# Altium footprint library IMX6ULL_MINI_V2.2.PcbLib: 44 footprints (part 2 of 3)
Each footprint in its own frame and in the unit in brackets; x right, y up, seen from the top. Pads: shape width x height; smd on the part's side, far side on the other; paste and mask are expansions set on the pad; w line width, h text height; cw(c..) or ccw(c..) is an arc to the next point about the centre after c.
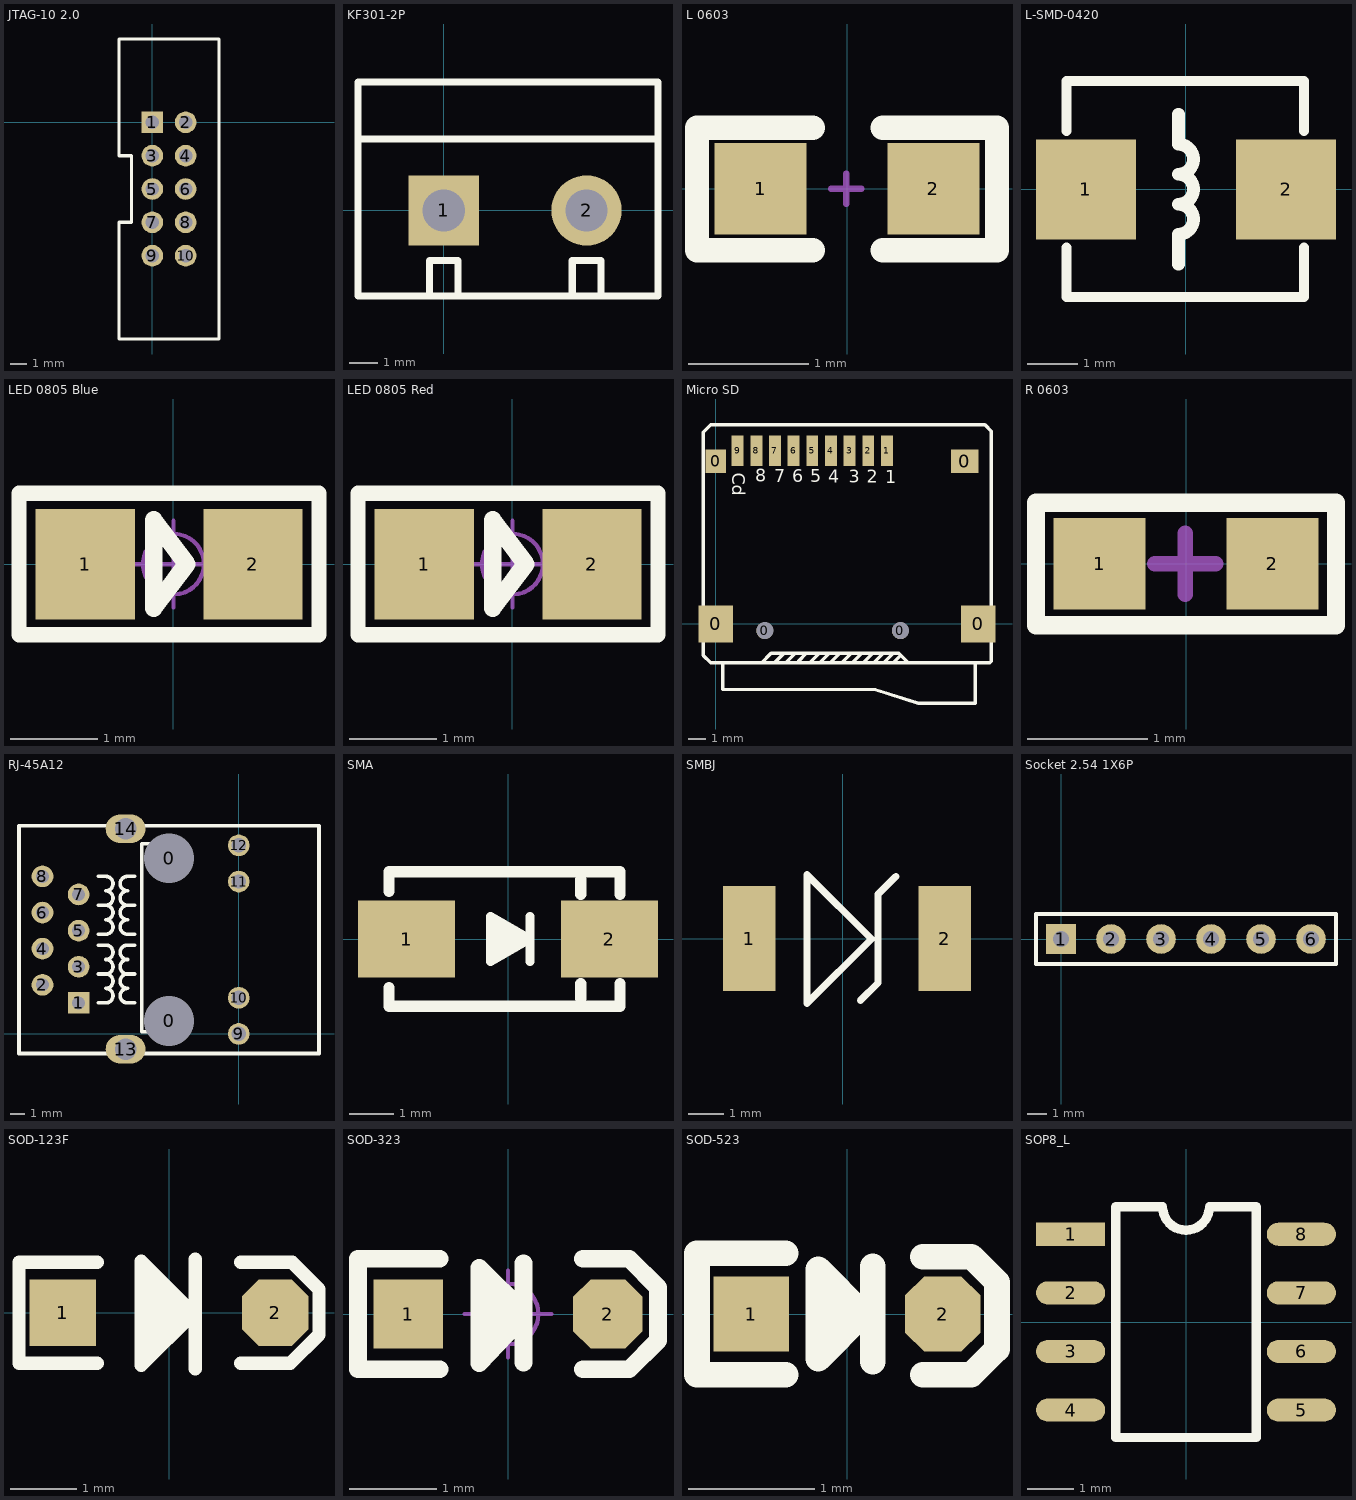
[diagram p1: the footprints below, top view; thin cyan lines are the x and y axes]

## JTAG-10 2.0 [mm]
pads (10):
  rect 1.3x1.3 hole 0.8: 1(0,0)
  round 1.3 hole 0.8: 2(2,0) 3(0,-2) 4(2,-2) 5(0,-4) 6(2,-4) 7(0,-6) 8(2,-6) 9(0,-8) 10(2,-8)
Top Overlay:
  lines w0.2: -2,-13 -2,-6 -1.25,-6 -1.25,-2 -2,-2 -2,3.25 -2,5 4,5 4,-13 -2,-13

## KF301-2P [mm]
pads (2):
  rect 2.5x2.5 hole 1.5: 1(0,0)
  round 2.5 hole 1.5: 2(5.08,0)
Top Overlay:
  lines w0.254: -3.048,2.54 7.62,2.54 ; -0.508,-3.048 -0.508,-1.778 0.508,-1.778 0.508,-3.048 ; 4.572,-3.048 4.572,-1.778 5.588,-1.778 5.588,-3.048 ; -3.048,-3.048 7.62,-3.048 7.62,4.572 -3.048,4.572 -3.048,-3.048

## L 0603 [mil]
pads (2):
  rect 30x30 smd mask+2: 1(-28.25,0) 2(28.25,0)
Top Overlay:
  lines w8: -11.25,-20.06 -49,-20.06 -49,19.94 -11.25,19.94 ; 11.75,-20.06 49,-20.06 49,19.94 11.75,19.94
Mechanical 15:
  lines w2: -5.25,0 4.75,0 ; -0.25,-5 -0.25,0 -0.25,5

## L-SMD-0420 [mm]
pads (2):
  rrect0% 2x2 smd: 1(-2,0) 2(2,0)
Top Overlay:
  lines w0.2: -2.388,-1.168 -2.388,-2.159 2.362,-2.159 2.362,-1.168 ; -2.388,1.168 -2.388,2.17 2.362,2.17 2.362,1.168
  lines w0.254: -0.15,-1.5 -0.15,-0.9 ccw(c-0.15,-0.6) -0.15,-0.3 ; -0.15,1.5 -0.15,0.9 cw(c-0.15,0.6) -0.15,0.3 ; -0.15,-0.3 ccw(c-0.15,0) -0.15,0.3 ; -0.15,-0.3 -0.15,-0.3 ; -0.15,0.3 -0.15,0.3

## LED 0805 Blue [mil]
pads (2):
  rect 45x50 smd: 1(-40,0) 2(36.01,0)
Top Overlay:
  lines w7: -70.03,-31.94 65.97,-31.94 65.97,32.06 -70.03,32.06 -70.03,-31.94
  lines w8: -9,-20 6,0 -9,20 -9,-20
Mechanical 15:
  circle w1.97: c0,0 r13.78
  lines w1.97: -19.68,0 19.68,0 ; 0,-19.68 0,19.68

## LED 0805 Red [mil]
pads (2):
  rect 45x50 smd: 1(-40,0) 2(36.01,0)
Top Overlay:
  lines w7: -70.03,-31.94 65.97,-31.94 65.97,32.06 -70.03,32.06 -70.03,-31.94
  lines w8: -9,-20 6,0 -9,20 -9,-20
Mechanical 15:
  circle w1.97: c0,0 r13.78
  lines w1.97: -19.68,0 19.68,0 ; 0,-19.68 0,19.68

## Micro SD [mm]
pads (15):
  rect 2.032x2.2 smd: 0(0,0) 0(15.5,0)
  rect 1.2x1.4 smd: 0(0,9.6)
  round 1 hole 1 unplated: 0(2.9,-0.4) 0(10.9,-0.4)
  rect 1.6x1.4 smd: 0(14.7,9.6)
  rect 0.7x1.8 smd: 1(10.1,10.227) 2(9,10.227) 3(7.9,10.227) 4(6.8,10.227) 5(5.7,10.227) 6(4.6,10.227) 7(3.5,10.227) 8(2.4,10.227) 9(1.3,10.227)
Top Overlay:
  lines w0.203: 0.423,-2.295 0.423,-3.87 9.414,-3.87 ; 3.471,-2.295 4.004,-1.762 4.004,-1.736 ; 4.131,-2.295 4.639,-1.787 4.639,-1.736 ; 4.868,-2.295 4.868,-2.219 5.35,-1.736 ; 5.553,-2.295 6.112,-1.736 6.138,-1.736 ; 6.138,-2.295 6.671,-1.762 6.671,-1.736 ; 6.773,-2.295 7.331,-1.736 7.433,-1.736 ; 7.433,-2.295 7.992,-1.736 8.017,-1.736 ; 8.068,-2.295 8.601,-1.762 8.601,-1.736 ; 8.703,-2.295 9.262,-1.736 9.389,-1.736 ; 9.338,-2.295 9.897,-1.736 9.922,-1.736 ; 9.389,-3.87 11.954,-4.683 15.307,-4.683 15.307,-2.321 ; 9.922,-2.295 10.481,-1.736 ; 10.481,-2.295 10.887,-1.889 10.964,-1.889 ; -0.289,-2.295 2.709,-2.295 3.267,-1.736 10.811,-1.736 11.37,-2.295 16.171,-2.295 ; -0.289,-2.295 16.171,-2.295 ; -0.289,-2.295 -0.72,-1.863 -0.72,11.319 -0.289,11.751 15.891,11.751 16.272,11.37 16.272,-2.194 16.171,-2.295
  text "1" at 9.998,8.297 h0.76
  text "2" at 8.906,8.322 h0.76
  text "3" at 7.839,8.322 h0.76
  text "4" at 6.646,8.322 h0.76
  text "5" at 5.579,8.347 h0.76
  text "6" at 4.512,8.347 h0.76
  text "7" at 3.445,8.347 h0.76
  text "8" at 2.328,8.373 h0.76
  text "Cd" at 0.981,8.932 h0.76

## R 0603 [mil]
pads (2):
  rect 30x30 smd mask+2: 1(-28.25,0) 2(28.25,0)
Top Overlay:
  lines w6: 11.75,-20.06 49,-20.06 49,19.94 11.75,19.94 ; 16,19.94 -49,19.94 -49,-20.06 17,-20.06
Mechanical 15:
  lines w5: -10.25,0 9.75,0 ; -0.25,-10 -0.25,10

## RJ-45A12 [mil]
pads (16):
  round 130 hole 137.8: 0(-192.91,35.83) 0(-192.91,485.83)
  rect 60x60 hole 35.43: 1(-442.91,85.83)
  round 60 hole 35.43: 2(-542.91,135.83) 3(-442.91,185.83) 4(-542.91,235.83) 5(-442.91,285.83) 6(-542.91,335.83) 7(-442.91,385.83) 8(-542.91,435.83)
  round 60 hole 40: 9(0,0) 10(0,100) 11(0,421.65) 12(0,521.65)
  oval 110.24x78.74 hole 59.06: 13(-312.99,-42.13) 14(-312.99,567.32)
Top Overlay:
  lines w10: -387.91,85.83 -367.91,85.83 ccw(c-367.91,105.83) -367.91,125.83 ccw(c-367.91,145.83) -367.91,165.83 ; -387.91,165.83 -367.91,165.83 ; -387.91,245.83 -367.91,245.83 cw(c-367.91,225.83) -367.91,205.83 cw(c-367.91,185.83) -367.91,165.83 ; -387.91,275.83 -367.91,275.83 ccw(c-367.91,295.83) -367.91,315.83 ccw(c-367.91,335.83) -367.91,355.83 ; -387.91,355.83 -367.91,355.83 ; -387.91,435.83 -367.91,435.83 cw(c-367.91,415.83) -367.91,395.83 cw(c-367.91,375.83) -367.91,355.83 ; -287.91,85.83 -307.91,85.83 cw(c-307.91,105.83) -307.91,125.83 cw(c-307.91,145.83) -307.91,165.83 ; -287.91,165.83 -307.91,165.83 ; -287.91,245.83 -307.91,245.83 ccw(c-307.91,225.83) -307.91,205.83 ccw(c-307.91,185.83) -307.91,165.83 ; -287.91,275.83 -307.91,275.83 cw(c-307.91,295.83) -307.91,315.83 cw(c-307.91,335.83) -307.91,355.83 ; -287.91,355.83 -307.91,355.83 ; -287.91,435.83 -307.91,435.83 ccw(c-307.91,415.83) -307.91,395.83 ccw(c-307.91,375.83) -307.91,355.83 ; -247.91,5.83 -267.91,5.83 -267.91,525.83 -247.91,525.83 ; -607.91,-54.17 -607.91,575.83 222,575.83 222,-54.17 -607.91,-54.17

## SMA [mm]
pads (2):
  rect 2.2x1.75 smd: 1(-2.3,0) 2(2.3,0)
Top Overlay:
  lines w0.203: 0.494,-0.508 0.494,0.508 ; -0.395,-0.508 -0.395,0.508 0.494,0 -0.395,-0.508
  lines w0.254: -2.7,-1.105 -2.7,-1.524 2.54,-1.524 2.54,-1.016 ; -2.7,1.08 -2.7,1.524 2.54,1.524 2.54,1.016 ; -0.33,0.305 0.305,0 -0.254,-0.305 -0.254,0.051 0.023,0 ; 1.651,-1.35 1.651,-1.016 ; 1.651,1.016 1.651,1.35

## SMBJ [mm]
pads (2):
  rect 1.5x3 smd: 1(-2.667,0) 2(2.921,0)
Top Overlay:
  lines w0.203: 0.508,-1.778 1.016,-1.27 1.016,1.27 1.524,1.778 ; -1.016,-1.854 0.825,-0.013 -1.016,1.829 -1.016,-1.854

## Socket 2.54 1X6P [mm]
pads (6):
  rect 1.5x1.5 hole 0.8: 1(0,0)
  round 1.5 hole 0.8: 2(2.54,0) 3(5.08,0) 4(7.62,0) 5(10.16,0) 6(12.7,0)
Top Overlay:
  lines w0.2: -1.27,-1.27 13.97,-1.27 13.97,1.27 -1.27,1.27 -1.27,-1.27

## SOD-123F [mm]
pads (2):
  rect 1x1 smd: 1(-1.6,0)
  oct 1x1 smd: 2(1.6,0)
Top Overlay:
  lines w0.203: -1.08,-0.762 -2.261,-0.762 -2.261,0.762 -1.08,0.762 ; -0.34,0.648 -0.34,-0.559 0.235,0.016 -0.206,0.457 -0.206,-0.38 0.123,-0.051 0.098,-0.051 -0.206,0.254 -0.206,-0.016 -0.024,-0.198 0.052,-0.198 -0.206,0.061 ; 0.396,-0.841 0.396,0.805 ; 1.079,-0.762 1.829,-0.762 2.261,-0.33 2.261,0.356 1.854,0.762 1.079,0.762 ; -0.417,-0.792 0.356,-0.02 0.396,-0.038 -0.417,0.775 -0.417,-0.792

## SOD-323 [mm]
pads (2):
  rect 0.8x0.8 smd mask+0.076: 1(-1.15,0)
  oct 0.8x0.8 smd mask+0.076: 2(1.15,0)
Top Overlay:
  lines w0.203: -0.787,-0.635 -1.727,-0.635 -1.727,0.635 -0.787,0.635 ; -0.241,0.368 -0.241,-0.284 -0.213,-0.311 -0.213,-0.264 0.064,0.013 0.001,0.013 -0.241,0.254 -0.241,0.076 -0.088,-0.076 ; 0.178,-0.559 0.178,0.584 ; 0.178,-0.025 -0.33,-0.565 -0.33,0.533 0.178,0.025 ; 0.864,-0.635 1.397,-0.635 1.727,-0.305 1.727,0.305 1.397,0.635 0.864,0.635
Mechanical 15:
  circle w0.05: c0,0 r0.35
  lines w0.05: -0.5,0 0.5,0 ; 0,-0.5 0,0.5

## SOD-523 [mm]
pads (2):
  rect 0.6x0.6 smd: 1(-0.762,0)
  oct 0.6x0.6 smd: 2(0.762,0)
Top Overlay:
  region: -0.178,-0.178 0,-0.178 0,0.178 -0.178,0.178
  lines w0.203: -0.488,-0.483 -1.194,-0.483 -1.194,0.483 -0.488,0.483 ; -0.127,0 0.127,0 ; 0.203,-0.381 0.203,0.381 ; 0.604,-0.483 0.991,-0.483 1.194,-0.279 1.194,0.254 0.991,0.457 0.604,0.457 ; 0.127,0 -0.229,-0.356 -0.229,0.356 0.127,0

## SOP8_L [mm]
pads (8):
  rect 1.5x0.5 smd: 1(-2.5,1.905)
  oval 1.5x0.5 smd: 2(-2.5,0.635) 3(-2.5,-0.635) 4(-2.5,-1.905) 5(2.5,-1.905) 6(2.5,-0.635) 7(2.5,0.635) 8(2.5,1.905)
Top Overlay:
  lines w0.2: -1.524,2.5 -1.524,-2.5 1.524,-2.5 1.524,2.5
  lines w0.203: -1.524,2.5 -0.508,2.5 ccw(c0,2.5) 0,1.992 ; 1.524,2.5 0.508,2.5 cw(c0,2.5) 0,1.992 ; 0,1.992 0,1.992